# EAGLE library part GBA_CART (library gameboy)
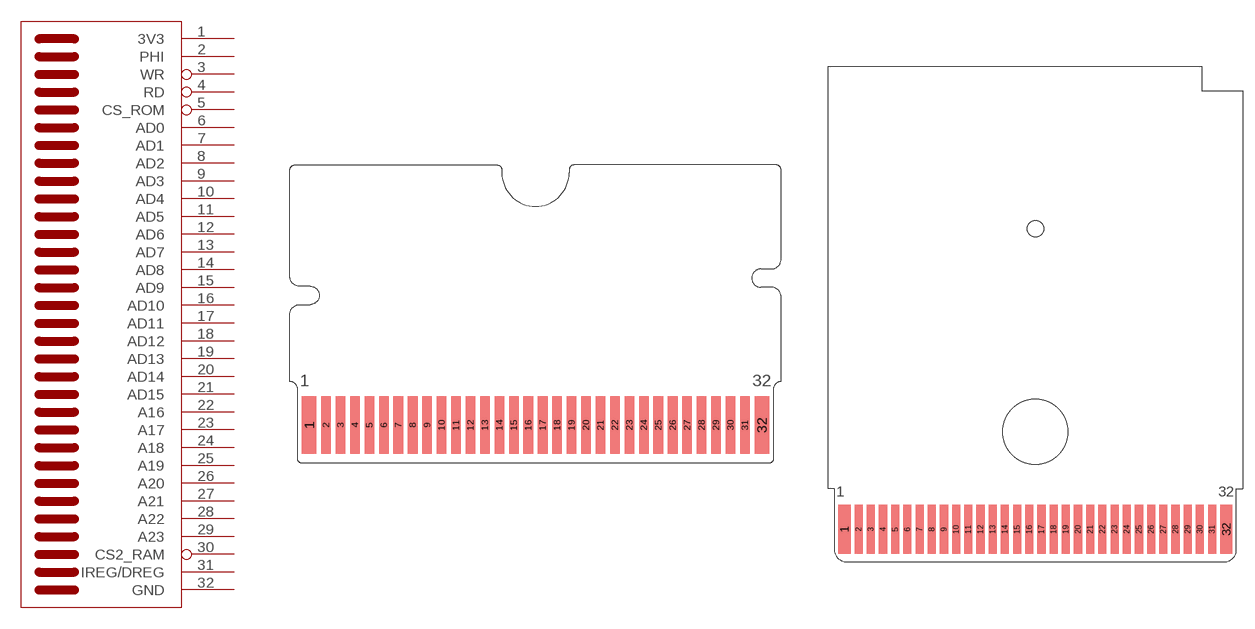
[diagram p2: symbol with the pads of GBA_CART; footprints GBA_CART, GBCART]

Designator prefix -

## GBA_CARTNORMAL  [GBA_CART]
1  3V3  pwr
2  PHI
3  WR  out
4  RD  out
5  CS_ROM  out
6  AD0
7  AD1
8  AD2
9  AD3
10  AD4
11  AD5
12  AD6
13  AD7
14  AD8
15  AD9
16  AD10
17  AD11
18  AD12
19  AD13
20  AD14
21  AD15
22  A16  out
23  A17  out
24  A18  out
25  A19  out
26  A20  out
27  A21  out
28  A22  out
29  A23  out
30  CS2_RAM  out
31  IREG/DREG  in
32  GND  sup

## GBA_CARTLARGE  [GBCART]
Pads as for GBA_CART

## Footprint GBA_CART (pad centres in mm)
smd 1.5 x 6: 1 -23.4,0.19; 32 23.6,0.19
smd 1 x 6: 2 -21.65,0.19; 3 -20.15,0.19; 4 -18.65,0.19; 5 -17.15,0.19; 6 -15.65,0.19; 7 -14.15,0.19; 8 -12.65,0.19; 9 -11.15,0.19; 10 -9.65,0.19; 11 -8.15,0.19; 12 -6.65,0.19; 13 -5.15,0.19; 14 -3.65,0.19; 15 -2.15,0.19; 16 -0.65,0.19; 17 0.85,0.19; 18 2.35,0.19; 19 3.85,0.19; 20 5.35,0.19; 21 6.85,0.19; 22 8.35,0.19; 23 9.85,0.19; 24 11.35,0.19; 25 12.85,0.19; 26 14.35,0.19; 27 15.85,0.19; 28 17.35,0.19; 29 18.85,0.19; 30 20.35,0.19; 31 21.85,0.19

## Footprint GBCART (pad centres in mm)
smd 1.5 x 6: 1 -23.4,-25.21; 32 23.6,-25.21
smd 1 x 6: 2 -21.65,-25.21; 3 -20.15,-25.21; 4 -18.65,-25.21; 5 -17.15,-25.21; 6 -15.65,-25.21; 7 -14.15,-25.21; 8 -12.65,-25.21; 9 -11.15,-25.21; 10 -9.65,-25.21; 11 -8.15,-25.21; 12 -6.65,-25.21; 13 -5.15,-25.21; 14 -3.65,-25.21; 15 -2.15,-25.21; 16 -0.65,-25.21; 17 0.85,-25.21; 18 2.35,-25.21; 19 3.85,-25.21; 20 5.35,-25.21; 21 6.85,-25.21; 22 8.35,-25.21; 23 9.85,-25.21; 24 11.35,-25.21; 25 12.85,-25.21; 26 14.35,-25.21; 27 15.85,-25.21; 28 17.35,-25.21; 29 18.85,-25.21; 30 20.35,-25.21; 31 21.85,-25.21
hole 8 at 0.1,-13.21
hole 2 at 0.1,11.79